# EAGLE library part 52892-1295 (library Molex_By_element14_Batch_1)
CONNECTOR, FPC, ZIF, 0.50MM, 12 WAY
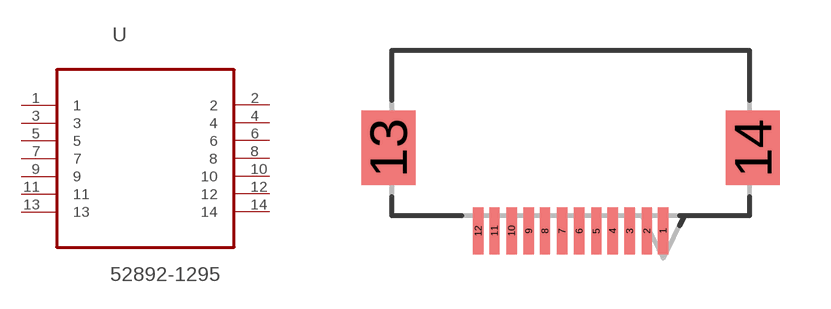
[diagram p28: symbol with the pads of MOLEX_52892-1295; footprint MOLEX_52892-1295]

Designator prefix U

## 52892-1295 (MPN: 52892-1295; OC_FARNELL: 1556805; OC_NEWARK: 25M4431; PACKAGE: CONNECTOR, FPC, ZIF, 0.50MM, 12 WAY; SUPPLIER: Molex)  [MOLEX_52892-1295]
1  1  pas
2  2  pas
3  3  pas
4  4  pas
5  5  pas
6  6  pas
7  7  pas
8  8  pas
9  9  pas
10  10  pas
11  11  pas
12  12  pas
13  13  pas
14  14  pas

## Footprint MOLEX_52892-1295 (pad centres in mm)
smd 0.305 x 1.397: 1 2.743,2.896; 2 2.261,2.896; 3 1.753,2.896; 4 1.245,2.896; 5 0.762,2.896; 6 0.254,2.896; 7 -0.254,2.896; 8 -0.762,2.896; 9 -1.245,2.896; 10 -1.753,2.896; 11 -2.261,2.896; 12 -2.743,2.896
smd 1.6 x 2.21: 13 -5.41,5.359; 14 5.41,5.359